# EAGLE library part ATTINY24 (library SparkFun-20100301)
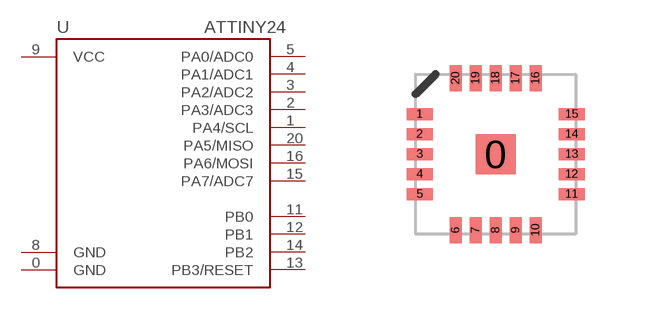
[diagram p108: symbol with the pads of QFN20; footprint QFN20]

Designator prefix -

## ATTINY24QFN  [QFN20]
0  GND
1  PA4/SCL
2  PA3/ADC3
3  PA2/ADC2
4  PA1/ADC1
5  PA0/ADC0
8  GND
9  VCC
11  PB0
12  PB1
13  PB3/RESET
14  PB2
15  PA7/ADC7
16  PA6/MOSI
20  PA5/MISO

## Footprint QFN20 (pad centres in mm)
smd 1 x 1: 0 0,0
smd 0.65 x 0.3: 1 -1.9,1; 2 -1.9,0.5; 3 -1.9,0; 4 -1.9,-0.5; 5 -1.9,-1; 11 1.9,-1; 12 1.9,-0.5; 13 1.9,0; 14 1.9,0.5; 15 1.9,1
smd 0.3 x 0.65: 6 -1,-1.9; 7 -0.5,-1.9; 8 0,-1.9; 9 0.5,-1.9; 10 1,-1.9; 16 1,1.9; 17 0.5,1.9; 18 0,1.9; 19 -0.5,1.9; 20 -1,1.9